# Altium footprint library PG-DSO-8.PcbLib: 2 footprints
Each footprint in its own frame and in the unit in brackets; x right, y up, seen from the top. Pads: shape width x height; smd on the part's side, far side on the other; paste and mask are expansions set on the pad; w line width, h text height; cw(c..) or ccw(c..) is an arc to the next point about the centre after c.
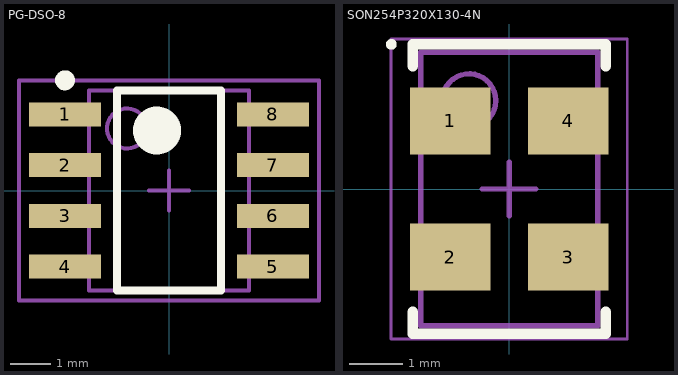
[diagram p0: the footprints below, top view; thin cyan lines are the x and y axes]

## PG-DSO-8 [mm] "SOP, 8-Leads, Body 5,0x4,0mm (max), Pitch 1,27mm, IPC Medium Density"
height 1.75
pads (8):
  rect 1.8x0.6 smd mask+0: 1(-2.6,1.905) 2(-2.6,0.635) 3(-2.6,-0.635) 4(-2.6,-1.905) 5(2.6,-1.905) 6(2.6,-0.635) 7(2.6,0.635) 8(2.6,1.905)
Top Overlay:
  circle w0.6: c-0.3,1.5 r0.3
  circle w0.25: c-2.6,2.755 r0.125
  lines w0.2: -1.3,-2.5 1.3,-2.5 1.3,2.5 -1.3,2.5 -1.3,-2.5
Mechanical 13:
  circle w0.1: c-1.05,1.55 r0.5
  lines w0.1: -2,-2.5 2,-2.5 2,2.5 -2,2.5 -2,-2.5
Mechanical 15:
  lines w0.1: -0.5,0 0.5,0 ; 0,-0.5 0,0.5 ; -3.75,-2.75 3.75,-2.75 3.75,2.75 -3.75,2.75 -3.75,-2.75
  text ".DESIGNATOR" at -3.429,-2.413 h1
3D body: height 1.75, standoff 0.17, extent -2,-2.5 2,2.5

## SON254P320X130-4N [mm] "SON, 4-Leads, Body 5.00x3.20mm, Pitch 2.54mm, IPC Medium Density"
height 1.3
pads (4):
  rect 1.5x1.25 smd: 1(-1.1,1.27) 2(-1.1,-1.27) 3(1.1,-1.27) 4(1.1,1.27)
Top Overlay:
  circle w0.1: c-2.2,2.7 r0.05
  lines w0.2: -1.8,-2.295 -1.8,-2.7 1.8,-2.7 1.8,-2.295 ; -1.8,2.295 -1.8,2.7 1.8,2.7 1.8,2.295
Mechanical 13:
  circle w0.1: c-0.75,1.65 r0.5
  lines w0.1: -1.65,-2.55 1.65,-2.55 1.65,2.55 -1.65,2.55 -1.65,-2.55
Mechanical 15:
  lines w0.05: -2.205,-2.8 2.205,-2.8 2.205,2.8 -2.205,2.8 -2.205,-2.8
  lines w0.1: -0.5,0 0.5,0 ; 0,-0.5 0,0.5
3D body "SON254P320X130-4N.step": height 1.3, standoff 0.1, extent -1.65,-2.55 1.65,2.55